# Altium footprint library ArduCam.PcbLib: 1 footprints
Each footprint in its own frame and in the unit in brackets; x right, y up, seen from the top. Pads: shape width x height; smd on the part's side, far side on the other; paste and mask are expansions set on the pad; w line width, h text height; cw(c..) or ccw(c..) is an arc to the next point about the centre after c.
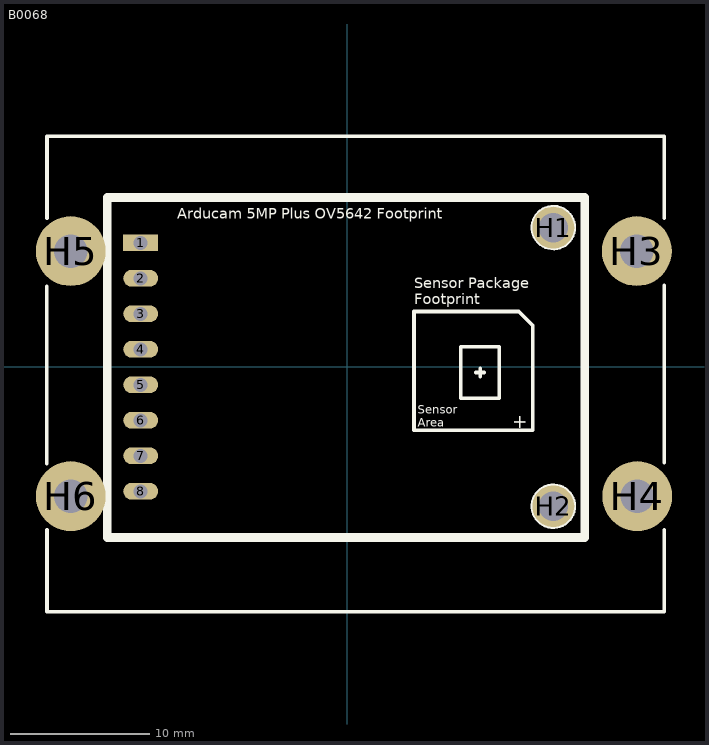
[diagram p0: the footprint, top view; thin cyan lines are the x and y axes]

## B0068 [mm]
pads (14):
  rect 2.5x1.2 hole 1: 1(-14.766,8.877)
  oval 2.5x1.2 hole 1: 2(-14.766,6.337) 3(-14.766,3.797) 4(-14.766,1.257) 5(-14.766,-1.283) 6(-14.766,-3.823) 7(-14.766,-6.363) 8(-14.766,-8.903)
  round 3 hole 2.1: H1(14.766,9.97) H2(14.766,-9.97)
  round 5 hole 2.4: H3(20.744,8.288) H4(20.77,-9.25) H5(-19.769,8.288) H6(-19.77,-9.25)
Top Overlay:
  circle w0.254: c14.766,-9.97 r1.5
  circle w0.254: c14.766,9.97 r1.5
  lines w0.25: 8.141,-2.229 8.141,1.425 10.878,1.425 10.888,1.415 10.888,-2.238 8.15,-2.238 8.141,-2.229
  lines w0.254: -21.472,-6.913 -21.472,5.787 ; -21.471,-11.641 -21.471,-17.507 22.699,-17.507 22.699,-11.641 ; -21.471,10.626 -21.471,16.493 22.699,16.493 22.699,10.626 ; 9.214,-0.4 9.824,-0.4 ; 9.519,-0.705 9.519,-0.096 ; 22.699,-6.859 22.699,5.841 ; 4.792,-4.534 13.292,-4.534 13.292,2.966 12.292,3.966 4.792,3.966 4.792,-4.534
  lines w0.635: -17.16,-12.217 -17.16,-0.826 -17.16,12.113 17.01,12.113 17.01,-12.217 -17.059,-12.217
  text "+" at 11.971,-3.4 h1
  text "Arducam 5MP Plus OV5642 Footprint" at -12.149,10.604 h0.76
  text "Sensor Package / Footprint" at 4.801,4.47 h0.76
  text "Sensor / Area" at 5.08,-4.267 h0.6
Top Solder:
  rectangle: -12.5,-10 4,9.5
3D body "ArducamModule.step": height 5.54, standoff -6, extent -17.255,-12.179 16.832,12.154